# Altium footprint library TB6575FNG,C,8,EL.PcbLib: 3 footprints
Each footprint in its own frame and in the unit in brackets; x right, y up, seen from the top. Pads: shape width x height; smd on the part's side, far side on the other; paste and mask are expansions set on the pad; w line width, h text height; cw(c..) or ccw(c..) is an arc to the next point about the centre after c.
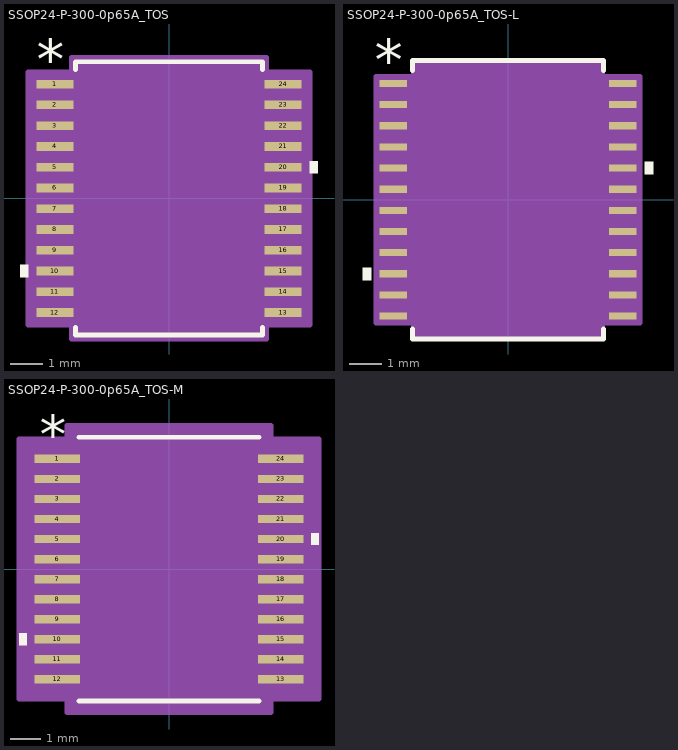
[diagram p0: the footprints below, top view; thin cyan lines are the x and y axes]

## SSOP24-P-300-0p65A_TOS [mm]
pads (24):
  rect 1.161x0.271 smd paste+0 mask+0: 1(-3.575,3.575) 2(-3.575,2.925) 3(-3.575,2.275) 4(-3.575,1.625) 5(-3.575,0.975) 6(-3.575,0.325) 7(-3.575,-0.325) 8(-3.575,-0.975) 9(-3.575,-1.625) 10(-3.575,-2.275) 11(-3.575,-2.925) 12(-3.575,-3.575) 13(3.575,-3.575) 14(3.575,-2.925) 15(3.575,-2.275) 16(3.575,-1.625) 17(3.575,-0.975) 18(3.575,-0.325) 19(3.575,0.325) 20(3.575,0.975) 21(3.575,1.625) 22(3.575,2.275) 23(3.575,2.925) 24(3.575,3.575)
Top Overlay:
  region: -4.41,-2.084 -4.664,-2.084 -4.664,-2.465 -4.41,-2.465
  region: 4.41,1.165 4.664,1.165 4.664,0.784 4.41,0.784
  lines w0.152: -2.927,-4.036 -2.927,-4.277 2.927,-4.277 2.927,-4.036 ; -2.927,4.036 -2.927,4.277 2.927,4.277 2.927,4.036
  text "*" at -4.146,3.719 h1.27
  text ".Designator" at -3.492,-0.635 h1.27
Mechanical 13:
  lines w0.025: -0.305,4.15 ccw(c0,4.15) 0.305,4.15 ; -3.8,-3.685 -3.8,-3.465 -2.8,-3.465 -2.8,-3.685 -3.8,-3.685 ; -3.8,-3.035 -3.8,-2.815 -2.8,-2.815 -2.8,-3.035 -3.8,-3.035 ; -3.8,-2.385 -3.8,-2.165 -2.8,-2.165 -2.8,-2.385 -3.8,-2.385 ; -3.8,-1.735 -3.8,-1.515 -2.8,-1.515 -2.8,-1.735 -3.8,-1.735 ; -3.8,-1.085 -3.8,-0.865 -2.8,-0.865 -2.8,-1.085 -3.8,-1.085 ; -3.8,-0.435 -3.8,-0.215 -2.8,-0.215 -2.8,-0.435 -3.8,-0.435 ; -3.8,0.215 -3.8,0.435 -2.8,0.435 -2.8,0.215 -3.8,0.215 ; -3.8,0.865 -3.8,1.085 -2.8,1.085 -2.8,0.865 -3.8,0.865 ; -3.8,1.515 -3.8,1.735 -2.8,1.735 -2.8,1.515 -3.8,1.515 ; -3.8,2.165 -3.8,2.385 -2.8,2.385 -2.8,2.165 -3.8,2.165 ; -3.8,2.815 -3.8,3.035 -2.8,3.035 -2.8,2.815 -3.8,2.815 ; -3.8,3.465 -3.8,3.685 -2.8,3.685 -2.8,3.465 -3.8,3.465 ; -2.8,-4.15 2.8,-4.15 2.8,4.15 -2.8,4.15 -2.8,-4.15 ; 2.8,-3.685 2.8,-3.465 3.8,-3.465 3.8,-3.685 2.8,-3.685 ; 2.8,-3.035 2.8,-2.815 3.8,-2.815 3.8,-3.035 2.8,-3.035 ; 2.8,-2.385 2.8,-2.165 3.8,-2.165 3.8,-2.385 2.8,-2.385 ; 2.8,-1.735 2.8,-1.515 3.8,-1.515 3.8,-1.735 2.8,-1.735 ; 2.8,-1.085 2.8,-0.865 3.8,-0.865 3.8,-1.085 2.8,-1.085 ; 2.8,-0.435 2.8,-0.215 3.8,-0.215 3.8,-0.435 2.8,-0.435 ; 2.8,0.215 2.8,0.435 3.8,0.435 3.8,0.215 2.8,0.215 ; 2.8,0.865 2.8,1.085 3.8,1.085 3.8,0.865 2.8,0.865 ; 2.8,1.515 2.8,1.735 3.8,1.735 3.8,1.515 2.8,1.515 ; 2.8,2.165 2.8,2.385 3.8,2.385 3.8,2.165 2.8,2.165 ; 2.8,2.815 2.8,3.035 3.8,3.035 3.8,2.815 2.8,2.815 ; 2.8,3.465 2.8,3.685 3.8,3.685 3.8,3.465 2.8,3.465
  text ".Designator" at -3.492,-0.635 h1.27
  text "*" at -2.736,2.804 h1.27
Mechanical 15:
  region: -3.054,-3.964 -4.41,-3.964 -4.41,3.964 -3.054,3.964 -3.054,4.404 3.054,4.404 3.054,3.964 4.41,3.964 4.41,-3.964 3.054,-3.964 3.054,-4.404 -3.054,-4.404
  lines w0.152: -4.41,-3.964 -4.41,3.964 -3.054,3.964 -3.054,4.404 3.054,4.404 3.054,3.964 4.41,3.964 4.41,-3.964 3.054,-3.964 3.054,-4.404 -3.054,-4.404 -3.054,-3.964 -4.41,-3.964
3D body "SSOP24-P-300-0p65A_TOS.step": height 1.6, standoff 0, extent -3.8,-4.15 3.8,4.15

## SSOP24-P-300-0p65A_TOS-L [mm]
pads (24):
  rect 0.856x0.22 smd paste+0 mask+0: 1(-3.524,3.575) 2(-3.524,2.925) 3(-3.524,2.275) 4(-3.524,1.625) 5(-3.524,0.975) 6(-3.524,0.325) 7(-3.524,-0.325) 8(-3.524,-0.975) 9(-3.524,-1.625) 10(-3.524,-2.275) 11(-3.524,-2.925) 12(-3.524,-3.575) 13(3.524,-3.575) 14(3.524,-2.925) 15(3.524,-2.275) 16(3.524,-1.625) 17(3.524,-0.975) 18(3.524,-0.325) 19(3.524,0.325) 20(3.524,0.975) 21(3.524,1.625) 22(3.524,2.275) 23(3.524,2.925) 24(3.524,3.575)
Top Overlay:
  region: -4.206,-2.084 -4.46,-2.084 -4.46,-2.465 -4.206,-2.465
  region: 4.206,1.165 4.46,1.165 4.46,0.784 4.206,0.784
  lines w0.152: -2.927,-3.972 -2.927,-4.277 2.927,-4.277 2.927,-3.972 ; -2.927,3.972 -2.927,4.277 2.927,4.277 2.927,3.972
  text "*" at -4.096,3.668 h1.27
  text ".Designator" at -3.492,-0.635 h1.27
Mechanical 13:
  lines w0.025: -0.305,4.15 ccw(c0,4.15) 0.305,4.15 ; -3.8,-3.685 -3.8,-3.465 -2.8,-3.465 -2.8,-3.685 -3.8,-3.685 ; -3.8,-3.035 -3.8,-2.815 -2.8,-2.815 -2.8,-3.035 -3.8,-3.035 ; -3.8,-2.385 -3.8,-2.165 -2.8,-2.165 -2.8,-2.385 -3.8,-2.385 ; -3.8,-1.735 -3.8,-1.515 -2.8,-1.515 -2.8,-1.735 -3.8,-1.735 ; -3.8,-1.085 -3.8,-0.865 -2.8,-0.865 -2.8,-1.085 -3.8,-1.085 ; -3.8,-0.435 -3.8,-0.215 -2.8,-0.215 -2.8,-0.435 -3.8,-0.435 ; -3.8,0.215 -3.8,0.435 -2.8,0.435 -2.8,0.215 -3.8,0.215 ; -3.8,0.865 -3.8,1.085 -2.8,1.085 -2.8,0.865 -3.8,0.865 ; -3.8,1.515 -3.8,1.735 -2.8,1.735 -2.8,1.515 -3.8,1.515 ; -3.8,2.165 -3.8,2.385 -2.8,2.385 -2.8,2.165 -3.8,2.165 ; -3.8,2.815 -3.8,3.035 -2.8,3.035 -2.8,2.815 -3.8,2.815 ; -3.8,3.465 -3.8,3.685 -2.8,3.685 -2.8,3.465 -3.8,3.465 ; -2.8,-4.15 2.8,-4.15 2.8,4.15 -2.8,4.15 -2.8,-4.15 ; 2.8,-3.685 2.8,-3.465 3.8,-3.465 3.8,-3.685 2.8,-3.685 ; 2.8,-3.035 2.8,-2.815 3.8,-2.815 3.8,-3.035 2.8,-3.035 ; 2.8,-2.385 2.8,-2.165 3.8,-2.165 3.8,-2.385 2.8,-2.385 ; 2.8,-1.735 2.8,-1.515 3.8,-1.515 3.8,-1.735 2.8,-1.735 ; 2.8,-1.085 2.8,-0.865 3.8,-0.865 3.8,-1.085 2.8,-1.085 ; 2.8,-0.435 2.8,-0.215 3.8,-0.215 3.8,-0.435 2.8,-0.435 ; 2.8,0.215 2.8,0.435 3.8,0.435 3.8,0.215 2.8,0.215 ; 2.8,0.865 2.8,1.085 3.8,1.085 3.8,0.865 2.8,0.865 ; 2.8,1.515 2.8,1.735 3.8,1.735 3.8,1.515 2.8,1.515 ; 2.8,2.165 2.8,2.385 3.8,2.385 3.8,2.165 2.8,2.165 ; 2.8,2.815 2.8,3.035 3.8,3.035 3.8,2.815 2.8,2.815 ; 2.8,3.465 2.8,3.685 3.8,3.685 3.8,3.465 2.8,3.465
  text ".Designator" at -3.492,-0.635 h1.27
  text "*" at -2.736,2.804 h1.27
Mechanical 15:
  region: -2.902,-3.787 -4.054,-3.787 -4.054,3.787 -2.902,3.787 -2.902,4.252 2.902,4.252 2.902,3.787 4.054,3.787 4.054,-3.787 2.902,-3.787 2.902,-4.252 -2.902,-4.252
  lines w0.152: -4.054,-3.787 -4.054,3.787 -2.902,3.787 -2.902,4.252 2.902,4.252 2.902,3.787 4.054,3.787 4.054,-3.787 2.902,-3.787 2.902,-4.252 -2.902,-4.252 -2.902,-3.787 -4.054,-3.787
3D body "SSOP24-P-300-0p65A_TOS.step": height 1.6, standoff 0, extent -3.8,-4.15 3.8,4.15

## SSOP24-P-300-0p65A_TOS-M [mm]
pads (24):
  rect 1.466x0.271 smd paste+0 mask+0: 1(-3.626,3.575) 2(-3.626,2.925) 3(-3.626,2.275) 4(-3.626,1.625) 5(-3.626,0.975) 6(-3.626,0.325) 7(-3.626,-0.325) 8(-3.626,-0.975) 9(-3.626,-1.625) 10(-3.626,-2.275) 11(-3.626,-2.925) 12(-3.626,-3.575) 13(3.626,-3.575) 14(3.626,-2.925) 15(3.626,-2.275) 16(3.626,-1.625) 17(3.626,-0.975) 18(3.626,-0.325) 19(3.626,0.325) 20(3.626,0.975) 21(3.626,1.625) 22(3.626,2.275) 23(3.626,2.925) 24(3.626,3.575)
Top Overlay:
  region: -4.613,-2.084 -4.867,-2.084 -4.867,-2.465 -4.613,-2.465
  region: 4.613,1.165 4.867,1.165 4.867,0.784 4.613,0.784
  lines w0.152: -2.927,-4.277 2.927,-4.277 ; -2.927,4.277 2.927,4.277
  text "*" at -4.197,3.719 h1.27
  text ".Designator" at -3.492,-0.635 h1.27
Mechanical 13:
  lines w0.025: -0.305,4.15 ccw(c0,4.15) 0.305,4.15 ; -3.8,-3.685 -3.8,-3.465 -2.8,-3.465 -2.8,-3.685 -3.8,-3.685 ; -3.8,-3.035 -3.8,-2.815 -2.8,-2.815 -2.8,-3.035 -3.8,-3.035 ; -3.8,-2.385 -3.8,-2.165 -2.8,-2.165 -2.8,-2.385 -3.8,-2.385 ; -3.8,-1.735 -3.8,-1.515 -2.8,-1.515 -2.8,-1.735 -3.8,-1.735 ; -3.8,-1.085 -3.8,-0.865 -2.8,-0.865 -2.8,-1.085 -3.8,-1.085 ; -3.8,-0.435 -3.8,-0.215 -2.8,-0.215 -2.8,-0.435 -3.8,-0.435 ; -3.8,0.215 -3.8,0.435 -2.8,0.435 -2.8,0.215 -3.8,0.215 ; -3.8,0.865 -3.8,1.085 -2.8,1.085 -2.8,0.865 -3.8,0.865 ; -3.8,1.515 -3.8,1.735 -2.8,1.735 -2.8,1.515 -3.8,1.515 ; -3.8,2.165 -3.8,2.385 -2.8,2.385 -2.8,2.165 -3.8,2.165 ; -3.8,2.815 -3.8,3.035 -2.8,3.035 -2.8,2.815 -3.8,2.815 ; -3.8,3.465 -3.8,3.685 -2.8,3.685 -2.8,3.465 -3.8,3.465 ; -2.8,-4.15 2.8,-4.15 2.8,4.15 -2.8,4.15 -2.8,-4.15 ; 2.8,-3.685 2.8,-3.465 3.8,-3.465 3.8,-3.685 2.8,-3.685 ; 2.8,-3.035 2.8,-2.815 3.8,-2.815 3.8,-3.035 2.8,-3.035 ; 2.8,-2.385 2.8,-2.165 3.8,-2.165 3.8,-2.385 2.8,-2.385 ; 2.8,-1.735 2.8,-1.515 3.8,-1.515 3.8,-1.735 2.8,-1.735 ; 2.8,-1.085 2.8,-0.865 3.8,-0.865 3.8,-1.085 2.8,-1.085 ; 2.8,-0.435 2.8,-0.215 3.8,-0.215 3.8,-0.435 2.8,-0.435 ; 2.8,0.215 2.8,0.435 3.8,0.435 3.8,0.215 2.8,0.215 ; 2.8,0.865 2.8,1.085 3.8,1.085 3.8,0.865 2.8,0.865 ; 2.8,1.515 2.8,1.735 3.8,1.735 3.8,1.515 2.8,1.515 ; 2.8,2.165 2.8,2.385 3.8,2.385 3.8,2.165 2.8,2.165 ; 2.8,2.815 2.8,3.035 3.8,3.035 3.8,2.815 2.8,2.815 ; 2.8,3.465 2.8,3.685 3.8,3.685 3.8,3.465 2.8,3.465
  text ".Designator" at -3.492,-0.635 h1.27
  text "*" at -2.736,2.804 h1.27
Mechanical 15:
  region: -3.308,-4.218 -4.867,-4.218 -4.867,4.218 -3.308,4.218 -3.308,4.658 3.308,4.658 3.308,4.218 4.867,4.218 4.867,-4.218 3.308,-4.218 3.308,-4.658 -3.308,-4.658
  lines w0.152: -4.867,-4.218 -4.867,4.218 -3.308,4.218 -3.308,4.658 3.308,4.658 3.308,4.218 4.867,4.218 4.867,-4.218 3.308,-4.218 3.308,-4.658 -3.308,-4.658 -3.308,-4.218 -4.867,-4.218
3D body "SSOP24-P-300-0p65A_TOS.step": height 1.6, standoff 0, extent -3.8,-4.15 3.8,4.15